# Altium footprint library lab11.PcbLib: 4 footprints
Each footprint in its own frame and in the unit in brackets; x right, y up, seen from the top. Pads: shape width x height; smd on the part's side, far side on the other; paste and mask are expansions set on the pad; w line width, h text height; cw(c..) or ccw(c..) is an arc to the next point about the centre after c.
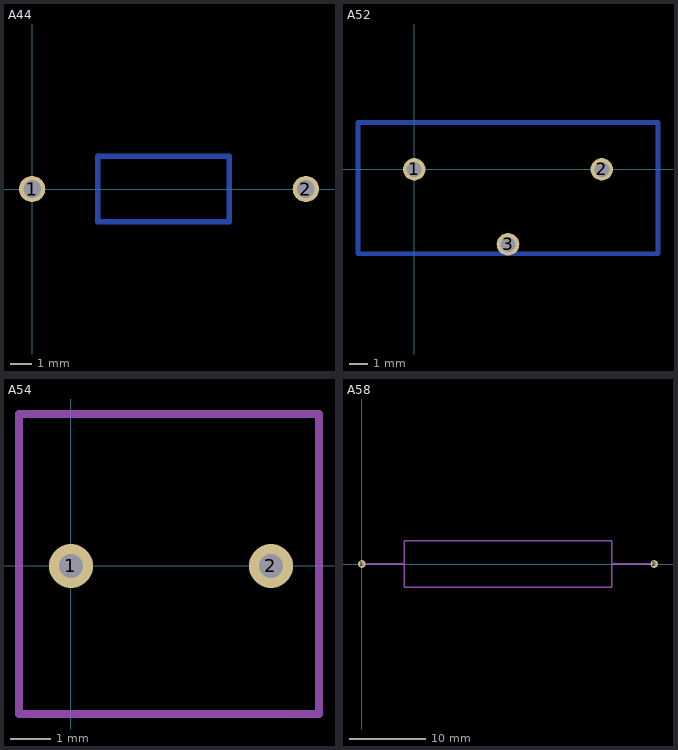
[diagram p0: the footprints below, top view; thin cyan lines are the x and y axes]

## A44 [mm]
pads (2):
  round 1.2 hole 0.8: 1(0,0) 2(12.5,0)
Bottom Layer:
  lines w0.254: 3,-1.5 9,-1.5 9,1.5 3,1.5 3,-1.5

## A52 [mm]
pads (3):
  round 1.2 hole 0.8: 1(0,0) 2(10,0) 3(5,-4)
Bottom Layer:
  lines w0.254: -3,-4.5 13,-4.5 13,2.5 -3,2.5 -3,-4.5

## A54 [mm]
pads (2):
  round 1.1 hole 0.6: 1(0,0) 2(5,0)
Mechanical 1:
  lines w0.2: -1.3,-3.7 6.2,-3.7 6.2,3.8 -1.3,3.8 -1.3,-3.7

## A58 [mm]
pads (2):
  round 1 hole 0.5: 1(0,0) 2(38,0)
Mechanical 1:
  lines w0.2: 0.5,0 5.5,0 ; 32.5,0 37.5,0 ; 5.5,-3 5.5,3 32.5,3 32.5,-3 5.5,-3